# Altium footprint library LDO.PcbLib: 100 footprints (part 1 of 7)
Each footprint in its own frame and in the unit in brackets; x right, y up, seen from the top. Pads: shape width x height; smd on the part's side, far side on the other; paste and mask are expansions set on the pad; w line width, h text height; cw(c..) or ccw(c..) is an arc to the next point about the centre after c.
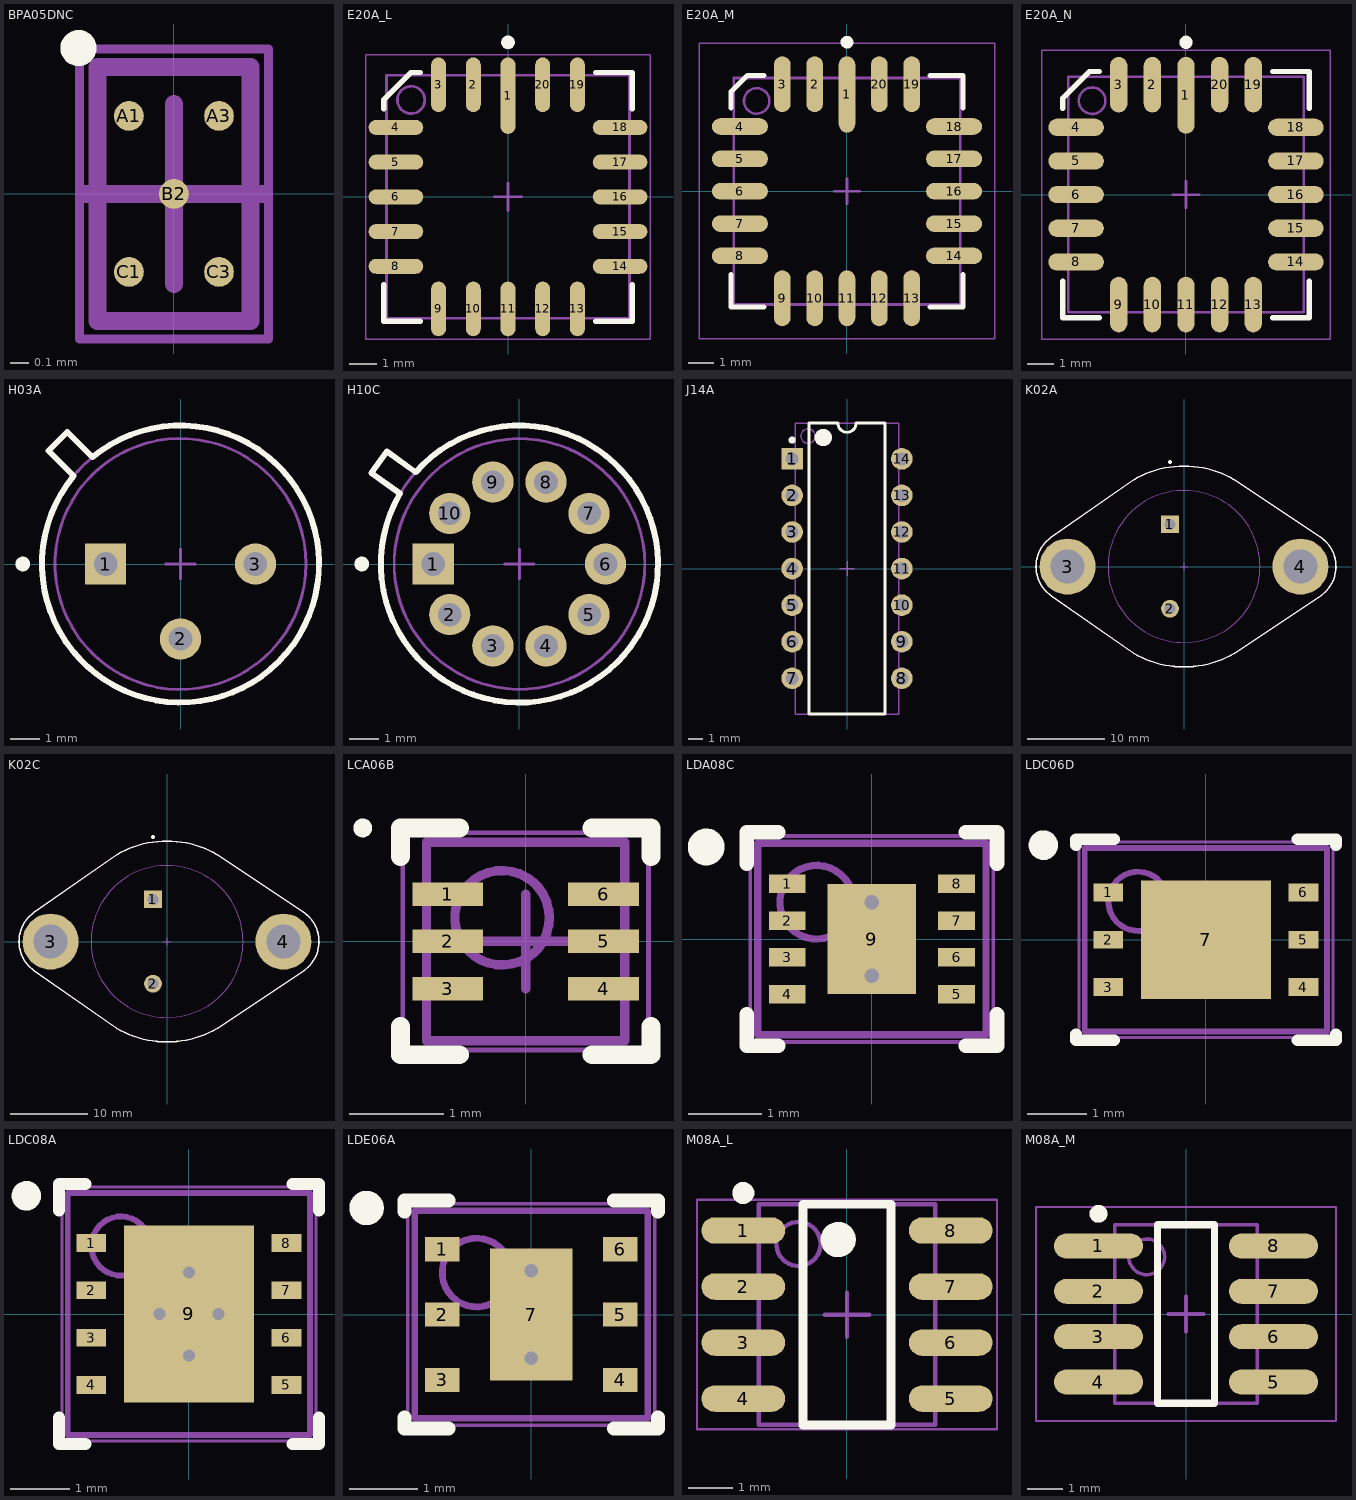
[diagram p0: the footprints below, top view; thin cyan lines are the x and y axes]

## BPA05DNC [mm] "Micro SMD, 5-Leads, Body 1.41x0.85mm, Pitch 0.5mm, NSC Recommended"
height 1
pads (5):
  round 0.165 smd paste-0.082 mask+0.05: A1(-0.25,0.433) A3(0.25,0.433) B2(0,0) C1(-0.25,-0.433) C3(0.25,-0.433)
Top Overlay:
  circle w0.1: c-0.53,0.81 r0.05
Top Paste:
  circle w0.05: c0.15,-0.533 r0.025
  circle w0.05: c0.35,-0.333 r0.025
  circle w0.05: c0.15,-0.333 r0.025
  circle w0.05: c0.35,-0.533 r0.025
  circle w0.05: c-0.35,-0.533 r0.025
  circle w0.05: c-0.15,-0.333 r0.025
  circle w0.05: c-0.35,-0.333 r0.025
  circle w0.05: c-0.15,-0.533 r0.025
  circle w0.05: c0.15,0.333 r0.025
  circle w0.05: c0.35,0.533 r0.025
  circle w0.05: c0.15,0.533 r0.025
  circle w0.05: c0.35,0.333 r0.025
  circle w0.05: c-0.35,0.333 r0.025
  circle w0.05: c-0.15,0.533 r0.025
  circle w0.05: c-0.35,0.533 r0.025
  circle w0.05: c-0.15,0.333 r0.025
  circle w0.05: c-0.1,-0.1 r0.025
  circle w0.05: c0.1,0.1 r0.025
  circle w0.05: c-0.1,0.1 r0.025
  circle w0.05: c0.1,-0.1 r0.025
  region: 0.35,-0.533 0.15,-0.533 0.15,-0.583 0.35,-0.583
  rectangle: 0.15,-0.533 0.35,-0.333
  rectangle: 0.15,-0.333 0.35,-0.283
  region: 0.15,-0.533 0.15,-0.333 0.1,-0.333 0.1,-0.533
  region: 0.35,-0.333 0.35,-0.533 0.4,-0.533 0.4,-0.333
  region: -0.15,-0.533 -0.35,-0.533 -0.35,-0.583 -0.15,-0.583
  rectangle: -0.35,-0.533 -0.15,-0.333
  rectangle: -0.35,-0.333 -0.15,-0.283
  region: -0.35,-0.533 -0.35,-0.333 -0.4,-0.333 -0.4,-0.533
  region: -0.15,-0.333 -0.15,-0.533 -0.1,-0.533 -0.1,-0.333
  region: 0.35,0.333 0.15,0.333 0.15,0.283 0.35,0.283
  rectangle: 0.15,0.333 0.35,0.533
  rectangle: 0.15,0.533 0.35,0.583
  region: 0.15,0.333 0.15,0.533 0.1,0.533 0.1,0.333
  region: 0.35,0.533 0.35,0.333 0.4,0.333 0.4,0.533
  region: -0.15,0.333 -0.35,0.333 -0.35,0.283 -0.15,0.283
  rectangle: -0.35,0.333 -0.15,0.533
  rectangle: -0.35,0.533 -0.15,0.583
  region: -0.35,0.333 -0.35,0.533 -0.4,0.533 -0.4,0.333
  region: -0.15,0.533 -0.15,0.333 -0.1,0.333 -0.1,0.533
  region: 0.1,-0.1 -0.1,-0.1 -0.1,-0.15 0.1,-0.15
  rectangle: -0.1,-0.1 0.1,0.1
  rectangle: -0.1,0.1 0.1,0.15
  region: -0.1,-0.1 -0.1,0.1 -0.15,0.1 -0.15,-0.1
  region: 0.1,0.1 0.1,-0.1 0.15,-0.1 0.15,0.1
Mechanical 13:
  lines w0.1: -0.425,-0.705 0.425,-0.705 0.425,0.705 -0.425,0.705 -0.425,-0.705
Mechanical 15:
  lines w0.05: -0.525,-0.805 -0.525,0.805 0.525,0.805 0.525,-0.805 -0.525,-0.805
  lines w0.1: -0.5,0 0.5,0 ; 0,-0.5 0,0.5
3D body: height 1, standoff 0, extent -0.424,-0.704 0.424,0.704

## E20A_L [mm] "Leadless Chip Carrier, 20-Leads, Body 8.9x8.9mm, Pitch 1.27mm, IPC High Density"
height 1.91
pads (20):
  oval 0.55x2.8 smd: 1(0,3.7)
  oval 0.55x2 smd: 2(-1.27,4.1) 3(-2.54,4.1) 9(-2.54,-4.1) 10(-1.27,-4.1) 11(0,-4.1) 12(1.27,-4.1) 13(2.54,-4.1) 19(2.54,4.1) 20(1.27,4.1)
  oval 2x0.55 smd: 4(-4.1,2.54) 5(-4.1,1.27) 6(-4.1,0) 7(-4.1,-1.27) 8(-4.1,-2.54) 14(4.1,-2.54) 15(4.1,-1.27) 16(4.1,0) 17(4.1,1.27) 18(4.1,2.54)
Top Overlay:
  circle w0.25: c0,5.65 r0.125
  lines w0.2: -4.55,-3.215 -4.55,-4.55 -3.215,-4.55 ; -4.55,3.215 -4.55,3.55 -3.55,4.55 -3.215,4.55 ; 3.215,-4.55 4.55,-4.55 4.55,-3.215 ; 3.215,4.55 4.55,4.55 4.55,3.215
Mechanical 13:
  circle w0.1: c-3.545,3.545 r0.5
  lines w0.1: -4.445,-4.445 4.445,-4.445 4.445,4.445 -4.445,4.445 -4.445,-4.445
Mechanical 15:
  lines w0.05: -5.2,-5.2 5.2,-5.2 5.2,5.2 -5.2,5.2 -5.2,-5.2
  lines w0.1: -0.5,0 0.5,0 ; 0,-0.5 0,0.5
3D body: height 1.91, standoff 0, extent -4.445,-4.445 4.445,4.445

## E20A_M [mm] "Leadless Chip Carrier, 20-Leads, Body 8.9x8.9mm, Pitch 1.27mm, IPC Low Density"
height 1.91
pads (20):
  oval 0.65x3 smd: 1(0,3.8)
  oval 0.65x2.2 smd: 2(-1.27,4.2) 3(-2.54,4.2) 9(-2.54,-4.2) 10(-1.27,-4.2) 11(0,-4.2) 12(1.27,-4.2) 13(2.54,-4.2) 19(2.54,4.2) 20(1.27,4.2)
  oval 2.2x0.65 smd: 4(-4.2,2.54) 5(-4.2,1.27) 6(-4.2,0) 7(-4.2,-1.27) 8(-4.2,-2.54) 14(4.2,-2.54) 15(4.2,-1.27) 16(4.2,0) 17(4.2,1.27) 18(4.2,2.54)
Top Overlay:
  circle w0.25: c0,5.85 r0.125
  lines w0.2: -4.55,-3.265 -4.55,-4.55 -3.265,-4.55 ; -4.55,3.265 -4.55,3.908 -3.908,4.55 -3.265,4.55 ; 3.265,-4.55 4.55,-4.55 4.55,-3.265 ; 3.265,4.55 4.55,4.55 4.55,3.265
Mechanical 13:
  circle w0.1: c-3.545,3.545 r0.5
  lines w0.1: -4.445,-4.445 -4.445,4.445 4.445,4.445 4.445,-4.445 -4.445,-4.445
Mechanical 15:
  lines w0.05: -5.8,-5.8 -5.8,5.8 5.8,5.8 5.8,-5.8 -5.8,-5.8
  lines w0.1: -0.5,0 0.5,0 ; 0,-0.5 0,0.5
3D body: height 1.91, standoff 0, extent -4.445,-4.445 4.445,4.445

## E20A_N [mm] "Leadless Chip Carrier, 20-Leads, Body 8.9x8.9mm, Pitch 1.27mm, IPC Medium Density"
height 1.91
pads (20):
  oval 0.65x2.9 smd: 1(0,3.75)
  oval 0.65x2.1 smd: 2(-1.27,4.15) 3(-2.54,4.15) 9(-2.54,-4.15) 10(-1.27,-4.15) 11(0,-4.15) 12(1.27,-4.15) 13(2.54,-4.15) 19(2.54,4.15) 20(1.27,4.15)
  oval 2.1x0.65 smd: 4(-4.15,2.54) 5(-4.15,1.27) 6(-4.15,0) 7(-4.15,-1.27) 8(-4.15,-2.54) 14(4.15,-2.54) 15(4.15,-1.27) 16(4.15,0) 17(4.15,1.27) 18(4.15,2.54)
Top Overlay:
  circle w0.25: c0,5.75 r0.125
  lines w0.2: -4.65,-3.265 -4.65,-4.65 -3.265,-4.65 ; -4.65,3.265 -4.65,3.65 -3.65,4.65 -3.265,4.65 ; 3.265,-4.65 4.65,-4.65 4.65,-3.265 ; 3.265,4.65 4.65,4.65 4.65,3.265
Mechanical 13:
  circle w0.1: c-3.545,3.545 r0.5
  lines w0.1: -4.445,-4.445 -4.445,4.445 4.445,4.445 4.445,-4.445 -4.445,-4.445
Mechanical 15:
  lines w0.05: -5.45,-5.45 -5.45,5.45 5.45,5.45 5.45,-5.45 -5.45,-5.45
  lines w0.1: -0.5,0 0.5,0 ; 0,-0.5 0,0.5
3D body: height 1.91, standoff 0, extent -4.445,-4.445 4.445,4.445

## H03A [mm] "Can; 3 Leads; Pin Circle Dia. 5.08 mm; Lead Dia. 0.48 mm (max)"
height 4.7
pads (3):
  rect 1.4x1.4 hole 0.8: 1(-2.54,0)
  round 1.4 hole 0.8: 2(0,-2.54) 3(2.54,0)
Top Overlay:
  circle w0.25: c-5.35,0 r0.125
  lines w0.2: -3.626,2.99 -4.475,3.838 -3.838,4.475 -2.99,3.626 ; -3.622,2.987 ccw(c0,0) -2.987,3.622
Mechanical 13:
  circle w0.1: c0,0 r4.255
  circle w0.1: c0,0 r4.695
Mechanical 15:
  lines w0.1: -0.5,0 0.5,0 ; 0,-0.5 0,0.5
3D body: height 4.7, standoff 1.27, extent -4.254,-4.254 4.254,4.254
3D body: height 1.27, standoff 0, extent -4.694,-4.694 4.694,4.694

## H10C [mm] "Can; 10 Leads; Pin Circle Dia. 5.84 mm; Lead Dia. 0.48 mm (max)"
height 4.7
pads (10):
  rect 1.4x1.4 hole 0.8: 1(-2.92,0)
  round 1.4 hole 0.8: 2(-2.362,-1.716) 3(-0.902,-2.777) 4(0.902,-2.777) 5(2.362,-1.716) 6(2.92,0) 7(2.362,1.716) 8(0.902,2.777) 9(-0.902,2.777) 10(-2.362,1.716)
Top Overlay:
  circle w0.25: c-5.35,0 r0.125
  lines w0.2: -4.049,2.386 -5.02,3.091 -4.491,3.819 -3.52,3.114 cw(c0,0) -4.049,2.386
Mechanical 13:
  circle w0.1: c0,0 r4.7
  circle w0.1: c0,0 r4.25
Mechanical 15:
  lines w0.1: -0.5,0 0.5,0 ; 0,-0.5 0,0.5
3D body: height 4.7, standoff 0.89, extent -4.249,-4.249 4.25,4.249
3D body: height 0.89, standoff 0, extent -4.699,-4.699 4.699,4.699

## J14A [mm] "DIP, 14-Pin, Row Spacing 7.62 mm, Pitch 2.54 mm"
height 5.08
pads (14):
  rect 1.5x1.5 hole 0.9: 1(-3.81,7.62)
  round 1.5 hole 0.9: 2(-3.81,5.08) 3(-3.81,2.54) 4(-3.81,0) 5(-3.81,-2.54) 6(-3.81,-5.08) 7(-3.81,-7.62) 8(3.81,-7.62) 9(3.81,-5.08) 10(3.81,-2.54) 11(3.81,0) 12(3.81,2.54) 13(3.81,5.08) 14(3.81,7.62)
Top Overlay:
  circle w0.6: c-1.65,9.1 r0.3
  circle w0.25: c-3.81,8.92 r0.125
  lines w0.2: -2.65,-10.1 2.65,-10.1 2.65,10.1 0.635,10.1 cw(c0,10.1) -0.635,10.1 -2.65,10.1 -2.65,-10.1
Mechanical 13:
  circle w0.1: c-2.7,9.2 r0.5
  lines w0.1: -3.6,-10.1 3.6,-10.1 3.6,10.1 -3.6,10.1 -3.6,-10.1
Mechanical 15:
  lines w0.1: -0.5,0 0.5,0 ; 0,-0.5 0,0.5
3D body: height 5.08, standoff 0, extent -3.6,-10.1 3.6,10.1

## K02A [mm] "Oval Flange Mount with (2) Offset Leads; Pin Spacing 10.93 mm; Lead Dia. 1.09 mm (max)"
height 8.94
pads (4):
  rect 2.3x2.3 hole 1.4: 1(-1.815,5.46)
  round 2.3 hole 1.4: 2(-1.815,-5.46)
  round 7.25 hole 4.4: 3(-15.075,0) 4(15.075,0)
Top Overlay:
  circle w0.25: c-1.815,13.53 r0.125
  lines w0.2: -17.2,-3.767 cw(c-14.561,0.001) -17.2,3.769 -6.5,11.258 cw(c0,0) 6.5,11.258 17.58,3.858 cw(c15.075,0) 17.713,-3.768 6.5,-11.258 cw(c0,0) -6.5,-11.258 -17.2,-3.767
Mechanical 13:
  circle w0.1: c0,0 r9.84
  lines w0.1: -17.2,-3.767 cw(c-14.561,0.001) -17.2,3.769 -6.5,11.258 cw(c0,0) 6.5,11.258 17.58,3.858 cw(c15.075,0) 17.713,-3.768 6.5,-11.258 cw(c0,0) -6.5,-11.258 -17.2,-3.767
Mechanical 15:
  lines w0.1: -0.5,0 0.5,0 ; 0,-0.5 0,0.5
3D body: height 1.77, standoff 0, extent -19.162,-13.001 19.676,13.001
3D body: height 8.94, standoff 1.77, extent -9.839,-9.839 9.839,9.839

## K02C [mm] "Oval Flange Mount with (2) Offset Leads; Pin Spacing 10.93 mm; Lead Dia. 1.09 mm (max)"
height 7.74
pads (4):
  rect 2.3x2.3 hole 1.4: 1(-1.815,5.46)
  round 2.3 hole 1.4: 2(-1.815,-5.46)
  round 7.25 hole 4.4: 3(-15.075,0) 4(15.075,0)
Top Overlay:
  circle w0.25: c-1.815,13.53 r0.125
  lines w0.2: -17.2,-3.767 cw(c-14.561,0.001) -17.2,3.769 -6.5,11.258 cw(c0,0) 6.5,11.258 17.58,3.858 cw(c15.075,0) 17.713,-3.768 6.5,-11.258 cw(c0,0) -6.5,-11.258 -17.2,-3.767
Mechanical 13:
  circle w0.1: c0,0 r9.84
  lines w0.1: -17.2,-3.767 cw(c-14.561,0.001) -17.2,3.769 -6.5,11.258 cw(c0,0) 6.5,11.258 17.58,3.858 cw(c15.075,0) 17.713,-3.768 6.5,-11.258 cw(c0,0) -6.5,-11.258 -17.2,-3.767
Mechanical 15:
  lines w0.1: -0.5,0 0.5,0 ; 0,-0.5 0,0.5
3D body: height 1.77, standoff 0, extent -19.162,-13.001 19.676,13.001
3D body: height 7.74, standoff 1.77, extent -9.839,-9.839 9.839,9.839

## LCA06B [mm] "SON, 6-Leads, Body 2x2mm, Pitch 0.5mm, NSC Recommended"
height 0.6
pads (6):
  rect 0.75x0.25 smd paste-0.125 mask+0.051: 1(-0.825,0.5) 2(-0.825,0) 3(-0.825,-0.5) 4(0.825,-0.5) 5(0.825,0) 6(0.825,0.5)
Top Overlay:
  circle w0.1: c-1.725,1.2 r0.05
  lines w0.2: -1.325,-0.9 -1.325,-1.2 -0.7,-1.2 ; -1.325,0.9 -1.325,1.2 -0.7,1.2 ; 0.7,-1.2 1.325,-1.2 1.325,-0.9 ; 0.7,1.2 1.325,1.2 1.325,0.9
Top Paste:
  region: -0.55,-0.375 -1.4,-0.375 -1.4,-0.625 -0.55,-0.625
  region: -0.55,0.125 -1.4,0.125 -1.4,-0.125 -0.55,-0.125
  region: -0.55,0.625 -1.4,0.625 -1.4,0.375 -0.55,0.375
  rectangle: 0.55,0.375 1.4,0.625
  rectangle: 0.55,-0.125 1.4,0.125
  rectangle: 0.55,-0.625 1.4,-0.375
Mechanical 13:
  circle w0.1: c-0.25,0.25 r0.5
  lines w0.1: -1.05,-1.05 1.05,-1.05 1.05,1.05 -1.05,1.05 -1.05,-1.05
Mechanical 15:
  lines w0.05: -1.3,-1.15 -1.3,1.15 ; -1.175,-1.15 1.175,-1.15 ; -1.175,1.15 1.175,1.15 ; 1.3,-1.15 1.3,1.15
  lines w0.1: -0.5,0 0.5,0 ; 0,-0.5 0,0.5
3D body: height 0.6, standoff 0, extent -1.049,-1.049 1.049,1.049

## LDA08C [mm] "PSON, 8-Leads, Body 2.5x3mm, Pitch 0.5mm, NSC Recommended"
height 0.8
pads (9):
  rect 0.5x0.25 smd paste-0.125 mask+0.051: 1(-1.15,0.75) 2(-1.15,0.25) 3(-1.15,-0.25) 4(-1.15,-0.75) 5(1.15,-0.75) 6(1.15,-0.25) 7(1.15,0.25) 8(1.15,0.75)
  rect 1.2x1.5 smd paste-0.6 mask+0.051: 9(0,0)
via 0,0.5 diameter 0.5 hole 0.2
via 0,-0.5 diameter 0.5 hole 0.2
Top Overlay:
  circle w0.25: c-2.25,1.25 r0.125
  lines w0.2: -1.7,-1.025 -1.7,-1.45 -1.275,-1.45 ; -1.7,1.025 -1.7,1.45 -1.275,1.45 ; 1.275,-1.45 1.7,-1.45 1.7,-1.025 ; 1.275,1.45 1.7,1.45 1.7,1.025
Top Paste:
  region: 1,0.875 1,0.625 1.5,0.625 1.5,0.875
  region: 1,0.375 1,0.125 1.5,0.125 1.5,0.375
  region: 1,-0.125 1,-0.375 1.5,-0.375 1.5,-0.125
  region: 1,-0.625 1,-0.875 1.5,-0.875 1.5,-0.625
  region: -1.5,0.875 -1.5,0.625 -1,0.625 -1,0.875
  region: -1.5,0.375 -1.5,0.125 -1,0.125 -1,0.375
  region: -1.5,-0.125 -1.5,-0.375 -1,-0.375 -1,-0.125
  region: -1.5,-0.625 -1.5,-0.875 -1,-0.875 -1,-0.625
  rectangle: -0.57,-0.713 0.57,0.713
Mechanical 13:
  circle w0.1: c-0.75,0.5 r0.5
  lines w0.1: -1.55,-1.3 1.55,-1.3 1.55,1.3 -1.55,1.3 -1.55,-1.3
Mechanical 15:
  lines w0.05: -1.65,-1.4 1.65,-1.4 1.65,1.4 -1.65,1.4 -1.65,-1.4
  lines w0.1: -0.5,0 0.5,0 ; 0,-0.5 0,0.5
3D body: height 0.8, standoff 0, extent -1.549,-1.299 1.549,1.299

## LDC06D [mm] "PSON, 6-Leads, Body 3x4 mm, Pitch 0.8mm, NSC Recommended"
height 0.8
pads (7):
  rect 0.5x0.3 smd paste-0.15 mask+0.051: 1(-1.65,0.8) 2(-1.65,0) 3(-1.65,-0.8) 4(1.65,-0.8) 5(1.65,0) 6(1.65,0.8)
  rect 2.2x2 smd paste-1 mask+0.051: 7(0,0)
Top Overlay:
  circle w0.25: c-2.75,1.6 r0.125
  lines w0.2: -2.2,-1.7 -2.2,-1.6 ; -2.2,1.6 -2.2,1.7 ; -2.195,-1.7 -1.55,-1.7 ; -2.195,1.7 -1.55,1.7 ; 1.55,-1.7 2.195,-1.7 ; 1.55,1.7 2.195,1.7 ; 2.2,-1.7 2.2,-1.6 ; 2.2,1.6 2.2,1.7
Top Paste:
  rectangle: 0.15,0.15 1,0.9
  region: -0.15,-0.15 -1,-0.15 -1,-0.9 -0.15,-0.9
  rectangle: 0.15,-0.9 1,-0.15
  region: -0.15,0.9 -1,0.9 -1,0.15 -0.15,0.15
  rectangle: -2,0.65 -1.5,0.95
  region: 2,0.95 1.5,0.95 1.5,0.65 2,0.65
  region: 2,-0.65 1.5,-0.65 1.5,-0.95 2,-0.95
  rectangle: -2,-0.95 -1.5,-0.65
  rectangle: -2,-0.15 -1.5,0.15
  region: 2,0.15 1.5,0.15 1.5,-0.15 2,-0.15
Mechanical 13:
  circle w0.1: c-1.15,0.65 r0.5
  lines w0.1: -2.05,-1.55 -2.05,1.55 2.05,1.55 2.05,-1.55 -2.05,-1.55
Mechanical 15:
  lines w0.05: -2.15,-1.65 2.15,-1.65 2.15,1.65 -2.15,1.65 -2.15,-1.65
  lines w0.1: -0.5,0 0.5,0 ; 0,-0.5 0,0.5
3D body: height 0.8, standoff 0, extent -2.049,-1.549 2.049,1.549

## LDC08A [mm] "PSON, 8-Leads, Body 4x4mm, Pitch 0.8mm, NSC Recommended"
height 0.8
pads (9):
  rect 0.5x0.3 smd paste-0.15 mask+0.051: 1(-1.65,1.2) 2(-1.65,0.4) 3(-1.65,-0.4) 4(-1.65,-1.2) 5(1.65,-1.2) 6(1.65,-0.4) 7(1.65,0.4) 8(1.65,1.2)
  rect 2.2x3 smd paste-1.5 mask+0.051: 9(0,0)
via 0,-0.7 diameter 0.5 hole 0.2
via 0,0.7 diameter 0.5 hole 0.2
via 0.5,0 diameter 0.5 hole 0.2
via -0.5,0 diameter 0.5 hole 0.2
Top Overlay:
  circle w0.25: c-2.75,2 r0.125
  lines w0.2: -2.2,-1.75 -2.2,-2.2 -1.75,-2.2 ; -2.2,1.75 -2.2,2.2 -1.75,2.2 ; 1.75,-2.2 2.2,-2.2 2.2,-1.75 ; 1.75,2.2 2.2,2.2 2.2,1.75
Top Paste:
  region: -2,1.35 -2,1.05 -1.5,1.05 -1.5,1.35
  region: -2,0.55 -2,0.25 -1.5,0.25 -1.5,0.55
  region: -2,-0.25 -2,-0.55 -1.5,-0.55 -1.5,-0.25
  region: -2,-1.05 -2,-1.35 -1.5,-1.35 -1.5,-1.05
  region: 1.5,-1.05 1.5,-1.35 2,-1.35 2,-1.05
  region: 1.5,-0.25 1.5,-0.55 2,-0.55 2,-0.25
  region: 1.5,0.55 1.5,0.25 2,0.25 2,0.55
  region: 1.5,1.35 1.5,1.05 2,1.05 2,1.35
  region: 1,-0.15 0.15,-0.15 0.15,-1.4 1,-1.4
  rectangle: -1,-1.4 -0.15,-0.15
  rectangle: -1,0.15 -0.15,1.4
  region: 1,1.4 0.15,1.4 0.15,0.15 1,0.15
Mechanical 13:
  circle w0.1: c-1.15,1.15 r0.5
  lines w0.1: -2.05,-2.05 -2.05,2.05 2.05,2.05 2.05,-2.05 -2.05,-2.05
Mechanical 15:
  lines w0.05: -2.15,-2.15 -2.15,2.15 2.15,2.15 2.15,-2.15 -2.15,-2.15
  lines w0.1: -0.5,0 0.5,0 ; 0,-0.5 0,0.5
3D body: height 0.8, standoff 0, extent -2.05,-2.05 2.05,2.05

## LDE06A [mm] "PSON, 6-Leads, Body 2.92x3.29 mm, Pitch 0.95mm, NSC Recommended"
height 0.8
pads (7):
  rect 0.5x0.35 smd paste-0.175 mask+0.051: 1(-1.295,0.95) 2(-1.295,0) 3(-1.295,-0.95) 4(1.295,-0.95) 5(1.295,0) 6(1.295,0.95)
  rect 1.2x1.92 smd paste-0.6 mask+0.051: 7(0,0)
via 0,-0.635 diameter 0.5 hole 0.2
via 0,0.635 diameter 0.5 hole 0.2
Top Overlay:
  circle w0.25: c-2.395,1.55 r0.125
  lines w0.2: -1.845,-1.5 -1.845,-1.66 -1.2,-1.66 ; -1.845,1.5 -1.845,1.66 -1.2,1.66 ; 1.2,-1.66 1.845,-1.66 1.845,-1.5 ; 1.2,1.66 1.845,1.66 1.845,1.5
Top Paste:
  rectangle: -0.57,-0.912 0.57,0.912
  region: 1.645,1.125 1.145,1.125 1.145,0.775 1.645,0.775
  region: 1.645,0.175 1.145,0.175 1.145,-0.175 1.645,-0.175
  region: 1.645,-0.775 1.145,-0.775 1.145,-1.125 1.645,-1.125
  rectangle: -1.645,-1.125 -1.145,-0.775
  rectangle: -1.645,-0.175 -1.145,0.175
  rectangle: -1.645,0.775 -1.145,1.125
Mechanical 13:
  circle w0.1: c-0.795,0.61 r0.5
  lines w0.1: -1.695,-1.51 -1.695,1.51 1.695,1.51 1.695,-1.51 -1.695,-1.51
Mechanical 15:
  lines w0.05: -1.795,-1.61 1.795,-1.61 1.795,1.61 -1.795,1.61 -1.795,-1.61
  lines w0.1: -0.5,0 0.5,0 ; 0,-0.5 0,0.5
3D body: height 0.8, standoff 0, extent -1.694,-1.509 1.694,1.509

## M08A_L [mm] "SOIC, 8-Leads, Body 4.9x3.9mm, Pitch 1.27mm, IPC High Density"
height 1.75
pads (8):
  oval 1.9x0.6 smd: 1(-2.35,1.905) 2(-2.35,0.635) 3(-2.35,-0.635) 4(-2.35,-1.905) 5(2.35,-1.905) 6(2.35,-0.635) 7(2.35,0.635) 8(2.35,1.905)
Top Overlay:
  circle w0.25: c-2.35,2.755 r0.125
  circle w0.4: c-0.2,1.7 r0.2
  lines w0.2: -1,-2.5 -1,2.5 1,2.5 1,-2.5 -1,-2.5
Mechanical 13:
  circle w0.1: c-1.1,1.6 r0.5
  lines w0.1: -2,-2.5 -2,2.5 2,2.5 2,-2.5 -2,-2.5
Mechanical 15:
  lines w0.05: -3.4,-2.6 -3.4,2.6 3.4,2.6 3.4,-2.6 -3.4,-2.6
  lines w0.1: -0.5,0 0.5,0 ; 0,-0.5 0,0.5
3D body: height 1.75, standoff 0.1, extent -2,-2.5 2,2.5

## M08A_M [mm] "SOIC, 8-Leads, Body 4.9x3.9mm, Pitch 1.27mm, IPC Low Density"
height 1.75
pads (8):
  oval 2.5x0.7 smd: 1(-2.45,1.905) 2(-2.45,0.635) 3(-2.45,-0.635) 4(-2.45,-1.905) 5(2.45,-1.905) 6(2.45,-0.635) 7(2.45,0.635) 8(2.45,1.905)
Top Overlay:
  circle w0.25: c-2.45,2.805 r0.125
  lines w0.2: -0.8,-2.5 0.8,-2.5 0.8,2.5 -0.8,2.5 -0.8,-2.5
Mechanical 13:
  circle w0.1: c-1.1,1.6 r0.5
  lines w0.1: -2,-2.5 2,-2.5 2,2.5 -2,2.5 -2,-2.5
Mechanical 15:
  lines w0.05: -4.2,-3 4.2,-3 4.2,3 -4.2,3 -4.2,-3
  lines w0.1: -0.5,0 0.5,0 ; 0,-0.5 0,0.5
3D body: height 1.75, standoff 0.1, extent -2,-2.5 2,2.5